# EAGLE library part 3M_2P54_06 (library stepOSP)
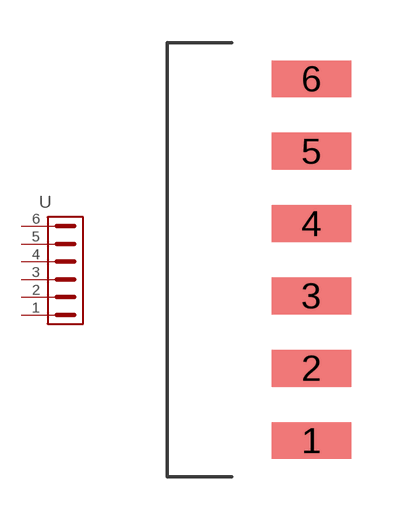
[diagram p8: symbol with the pads of 3M_2P54_6; footprint 3M_2P54_6]

Designator prefix -

## 3M_2P54_06  [3M_2P54_6]
1  P$1
2  P$2
3  P$3
4  P$4
5  P$5
6  P$6

## Footprint 3M_2P54_6 (pad centres in mm)
smd 2.794 x 1.295: 1 2.54,-5.08; 2 2.54,-2.54; 3 2.54,0; 4 2.54,2.54; 5 2.54,5.08; 6 2.54,7.62